# Altium integrated library RES_THD_AX14-8mm.IntLib: 1 symbol
Pins are listed as number, name and electrical type; pins without a type are passive.

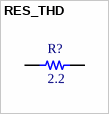
[diagram p0: symbol RES_THD]

## RES_THD
designator R?, comment 2.2
R
footprint RES_THD_AX14_0.25W-2.2 (RES_THD_AX14_ 0.25W - 2.2 - 8 mm)
pins: 1, 2